# EAGLE library part FLASH8M (library components)
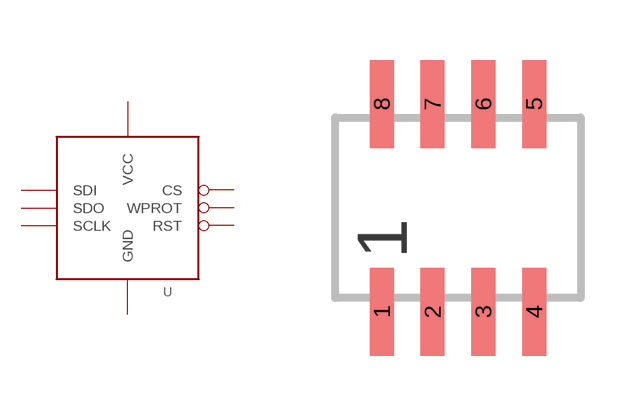
[diagram p7: symbol with the pads of SOP08; footprint SOP08]

Designator prefix -

## FLASH8MSOP8 (DESCRIPTION: M25PX80 1MB Serial Flash; DIGIKEY-PN: M25PX80-VMN6TPCT-ND)  [SOP08]
1  CS
2  SDO
3  WPROT
4  GND  pwr
5  SDI
6  SCLK
7  RST
8  VCC  pwr

## Footprint SOP08 (pad centres in mm)
SMALL OUTLINE PACKAGE
smd 0.6 x 2.2: 1 -1.905,-2.6; 2 -0.635,-2.6; 3 0.635,-2.6; 4 1.905,-2.6; 5 1.905,2.6; 6 0.635,2.6; 7 -0.635,2.6; 8 -1.905,2.6